# EAGLE library part YAMAICHI_SD_CARD (library dpx-MODULAR)
Vertical SD Card Holder
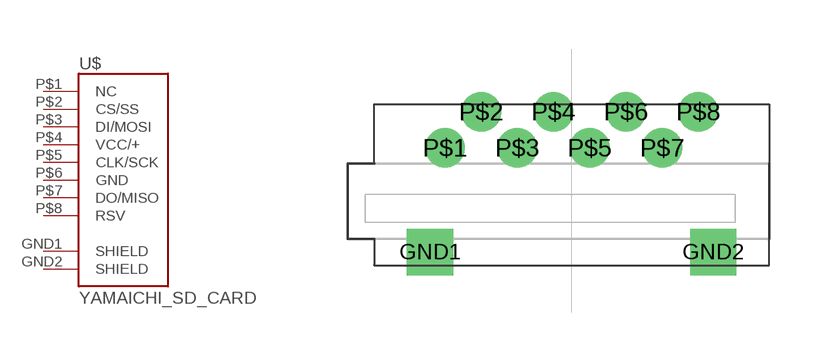
[diagram p8: symbol with the pads of YAMAICHI_MICROSD_VERTICAL; footprint YAMAICHI_MICROSD_VERTICAL]

Designator prefix U$

## YAMAICHI_SD_CARD  [YAMAICHI_MICROSD_VERTICAL]
GND1  SHIELD
GND2  SHIELD
P$1  NC
P$2  CS/SS
P$3  DI/MOSI
P$4  VCC/+
P$5  CLK/SCK
P$6  GND
P$7  DO/MISO
P$8  RSV

## Footprint YAMAICHI_MICROSD_VERTICAL (pad centres in mm)
Vertical Micro SD card slot
drill 0.9 square: GND1 -4.3,-3.17; GND2 4.3,-3.17
drill 0.7: P$1 -3.85,0; P$2 -2.75,1.1; P$3 -1.65,0; P$4 -0.55,1.1; P$5 0.55,0; P$6 1.65,1.1; P$7 2.75,0; P$8 3.85,1.1